# Altium schematic symbol library R-CRCW06034R70JNEAHP.Schlib: 1 symbol
Pins are listed as number, name and electrical type; pins without a type are passive.

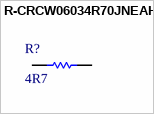
[diagram p0: symbol R-CRCW06034R70JNEAHP]

## R-CRCW06034R70JNEAHP
designator R?, comment 4R7
Thick Film Resistors - SMD 1/4watt 4.7ohms 5% 200ppm High Power
pins: 1, 2